# Altium schematic symbol library SCH - POWER - LINEAR VREG - TI LP2987AILD-3.0.SchLib: 1 symbol
Pins are listed as number, name and electrical type; pins without a type are passive.

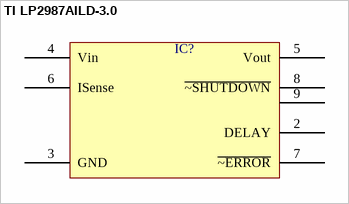
[diagram p0: symbol TI LP2987AILD-3.0]

## TI LP2987AILD-3.0
designator IC?  (value not drawn)
pins: 2 DELAY, 3 GND, 4 Vin, 5 Vout, 6 ISense, 7 ~{~ERROR}, 8 ~{~SHUTDOWN}, 9